# Altium footprint library Heat_Sinks_SMD.PcbLib: 4 footprints
Each footprint in its own frame and in the unit in brackets; x right, y up, seen from the top. Pads: shape width x height; smd on the part's side, far side on the other; paste and mask are expansions set on the pad; w line width, h text height; cw(c..) or ccw(c..) is an arc to the next point about the centre after c.
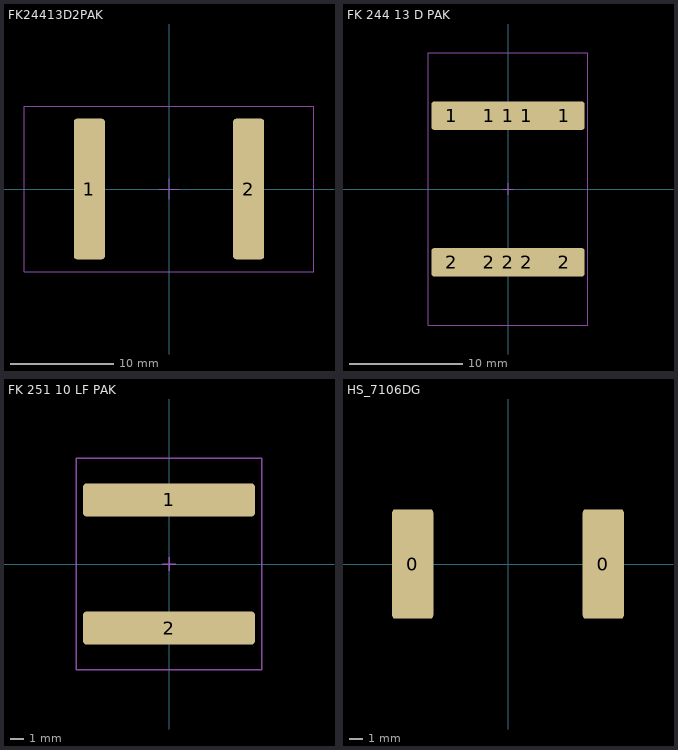
[diagram p0: the footprints below, top view; thin cyan lines are the x and y axes]

## FK24413D2PAK [mm] "FK24413D2PAK 22K/W"
height 10
pads (2):
  rrect20% 3x13.6 smd: 1(-7.7,0) 2(7.7,0)
Mechanical 15:
  lines w0.1: -1,0 1,0 ; 0,-1 0,1 ; -14,-8 -14,8 14,8 14,-8 -14,-8
3D body: height 10, standoff 0, extent -13.001,-6.5 13.001,6.5

## FK 244 13 D PAK [mm] "FK 244 13 D PAK Heat Sink for DPAK, 23x13x10mm, 25K/W"
height 10
pads (10):
  rrect20% 3x2.3 smd: 1(-4.95,6.45) 1(-1.65,6.45) 1(1.65,6.45) 1(4.95,6.45) 2(-4.95,-6.45) 2(-1.65,-6.45) 2(1.65,-6.45) 2(4.95,-6.45)
  rrect20% 13.5x2.5 smd paste-4: 1(0,6.45) 2(0,-6.45)
Mechanical 15:
  lines w0.1: -0.5,0 0.5,0 ; 0,-0.5 0,0.5 ; -7,-12 7,-12 7,12 -7,12 -7,-12
3D body: height 10.1, standoff 0.1, extent -6.5,-11.5 6.5,11.5

## FK 251 10 LF PAK [mm] "Heatsink: moulded; L: 13mm; W: 15mm; H: 10mm; 24K/W; copper; SMT"
height 10
pads (2):
  rrect20% 13x2.5 smd: 1(0,4.85) 2(0,-4.85)
Mechanical 15:
  lines w0.1: -0.5,0 0.5,0 ; 0,-0.5 0,0.5 ; -7,-8 7,-8 7,8 -7,8 -7,-8
3D body: height 10, standoff 0, extent -6.5,-7.5 6.5,7.5

## HS_7106DG [mm] "HS_7106DG"
pads (2):
  rrect15% 3x8 smd: 0(-6.96,0) 0(6.96,0)
3D body: height 9.49, standoff -0.03, extent -7.5,-12.955 7.49,12.955